# Altium footprint library VIA_MICROVIA.PcbLib: 1 footprints
Each footprint in its own frame and in the unit in brackets; x right, y up, seen from the top. Pads: shape width x height; smd on the part's side, far side on the other; paste and mask are expansions set on the pad; w line width, h text height; cw(c..) or ccw(c..) is an arc to the next point about the centre after c.

## VIA_MICROVIA [mm] "Microvia single layer span"
via 0,0 diameter 0.305 hole 0.152